# Altium footprint library smd_fp_lib.PcbLib: 10 footprints
Each footprint in its own frame and in the unit in brackets; x right, y up, seen from the top. Pads: shape width x height; smd on the part's side, far side on the other; paste and mask are expansions set on the pad; w line width, h text height; cw(c..) or ccw(c..) is an arc to the next point about the centre after c.
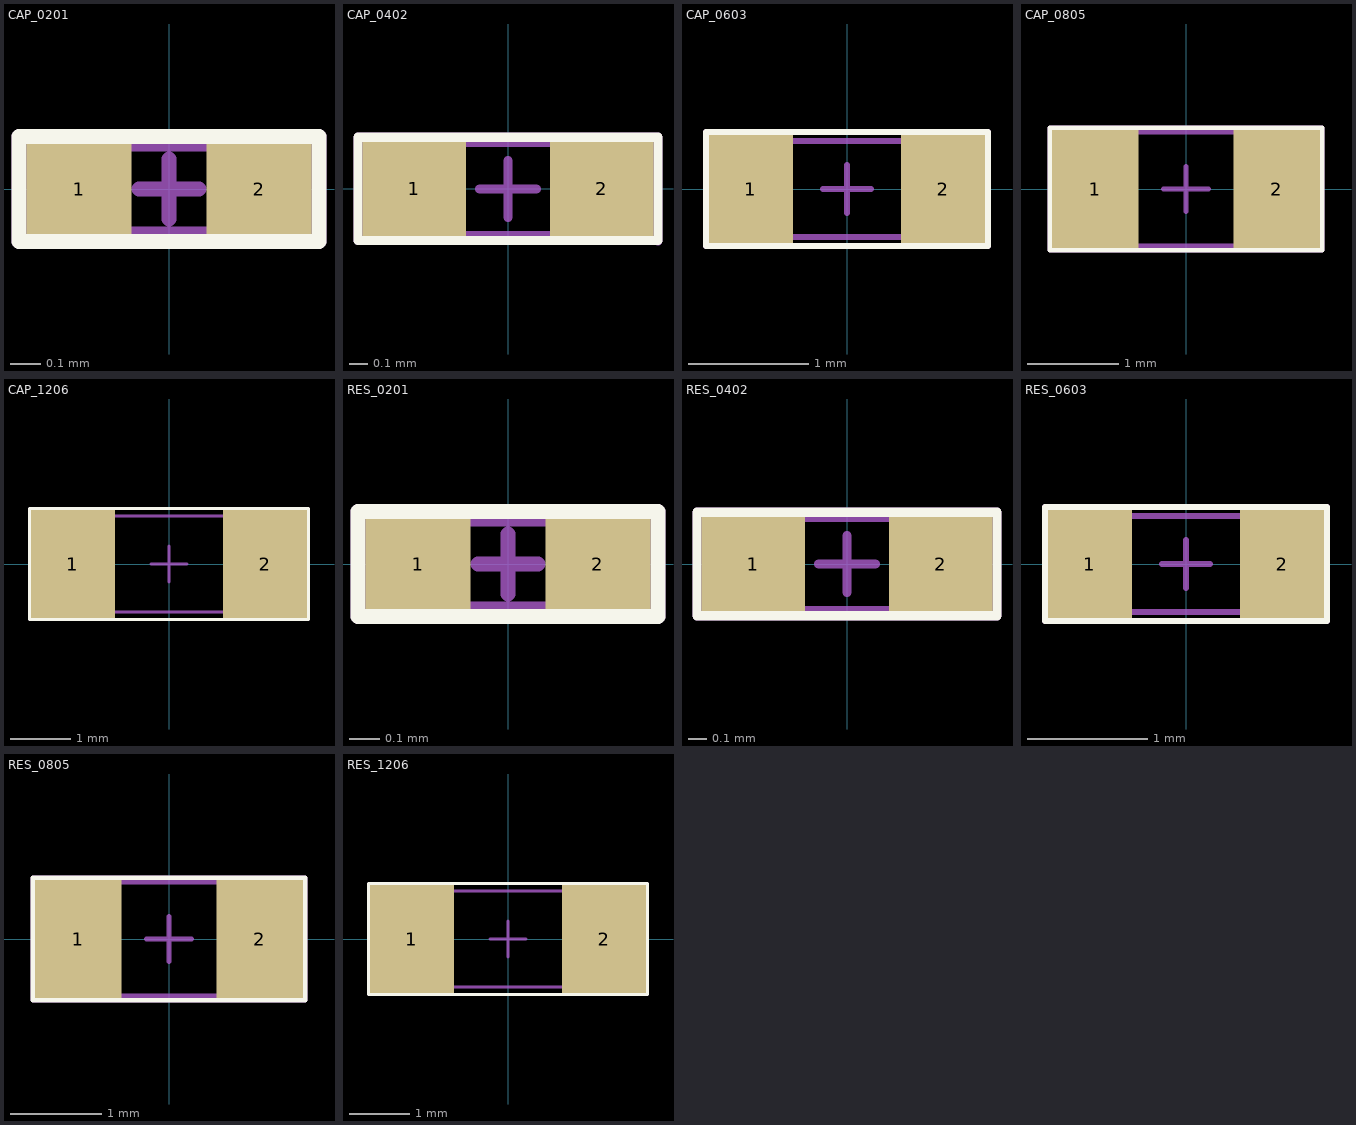
[diagram p0: the footprints below, top view; thin cyan lines are the x and y axes]

## CAP_0201 [mm]
height 0.33
pads (2):
  rect 0.35x0.3 smd mask+0.05: 1(-0.3,0) 2(0.3,0)
Top Overlay:
  lines w0.05: -0.5,-0.175 0.5,-0.175 0.5,0.175 -0.5,0.175 -0.5,-0.175
Mechanical 13:
  lines w0.05: -0.3,-0.15 0.3,-0.15 0.3,0.15 -0.3,0.15 -0.3,-0.15
Mechanical 15:
  lines w0.05: -0.1,0 0.1,0 ; 0,-0.1 0,0.1 ; -0.5,-0.175 -0.5,0.175 0.5,0.175 0.5,-0.175 -0.5,-0.175
3D body "C0201.STEP": height 0.33, standoff 0, extent -0.3,-0.15 0.3,0.15

## CAP_0402 [mm]
height 0.55
pads (2):
  rect 0.55x0.5 smd mask+0.05: 1(-0.5,0) 2(0.5,0)
Top Overlay:
  lines w0.05: -0.8,-0.275 0.8,-0.275 0.8,0.275 -0.8,0.275 -0.8,-0.275
Mechanical 13:
  lines w0.05: -0.5,-0.25 -0.5,0.25 0.5,0.25 0.5,-0.25 -0.5,-0.25
Mechanical 15:
  lines w0.05: -0.15,0 0.15,0 ; 0,-0.15 0,0.15 ; -0.8,-0.275 -0.8,0.275 0.8,0.275 0.8,-0.275 -0.8,-0.275
3D body "C0402.STEP": height 0.55, standoff 0, extent -0.5,-0.25 0.5,0.25

## CAP_0603 [mm]
height 0.9
pads (2):
  rect 0.7x0.9 smd mask+0.05: 1(-0.8,0) 2(0.8,0)
Top Overlay:
  lines w0.05: -1.175,-0.475 1.175,-0.475 1.175,0.475 -1.175,0.475 -1.175,-0.475
Mechanical 13:
  lines w0.05: -0.8,-0.4 -0.8,0.4 0.8,0.4 0.8,-0.4 -0.8,-0.4
Mechanical 15:
  lines w0.05: -0.2,0 0.2,0 ; 0,-0.2 0,0.2 ; -1.175,-0.475 -1.175,0.475 1.175,0.475 1.175,-0.475 -1.175,-0.475
3D body "C0603.STEP": height 0.9, standoff 0, extent -0.8,-0.4 0.8,0.4

## CAP_0805 [mm]
height 1.35
pads (2):
  rect 0.95x1.3 smd mask+0.05: 1(-1,0) 2(1,0)
Top Overlay:
  lines w0.05: -1.5,-0.675 -1.5,0.675 1.5,0.675 1.5,-0.675 -1.5,-0.675
Mechanical 13:
  lines w0.05: -1,-0.625 1,-0.625 1,0.625 -1,0.625 -1,-0.625
Mechanical 15:
  lines w0.05: -0.25,0 0.25,0 ; 0,-0.25 0,0.25 ; -1.5,-0.675 1.5,-0.675 1.5,0.675 -1.5,0.675 -1.5,-0.675
3D body "C0805.STEP": height 1.35, standoff 0, extent -1,-0.625 1,0.625

## CAP_1206 [mm]
height 1.4
pads (2):
  rect 1.4x1.8 smd mask+0.05: 1(-1.6,0) 2(1.6,0)
Top Overlay:
  lines w0.05: -2.325,-0.925 2.325,-0.925 2.325,0.925 -2.325,0.925 -2.325,-0.925
Mechanical 13:
  lines w0.05: -1.6,-0.8 1.6,-0.8 1.6,0.8 -1.6,0.8 -1.6,-0.8
Mechanical 15:
  lines w0.05: -0.3,0 0.3,0 ; 0,-0.3 0,0.3 ; -2.325,-0.925 2.325,-0.925 2.325,0.925 -2.325,0.925 -2.325,-0.925
3D body "C1206.STEP": height 1.4, standoff 0, extent -1.6,-0.8 1.6,0.8

## RES_0201 [mm]
height 0.25
pads (2):
  rect 0.35x0.3 smd mask+0.05: 1(-0.3,0) 2(0.3,0)
Top Overlay:
  lines w0.05: -0.5,-0.175 -0.5,0.175 0.5,0.175 0.5,-0.175 -0.5,-0.175
Mechanical 13:
  lines w0.05: -0.3,-0.15 0.3,-0.15 0.3,0.15 -0.3,0.15 -0.3,-0.15
Mechanical 15:
  lines w0.05: -0.1,0 0.1,0 ; 0,-0.1 0,0.1 ; -0.5,-0.175 0.5,-0.175 0.5,0.175 -0.5,0.175 -0.5,-0.175
3D body "R0201.STEP": height 0.23, standoff 0, extent -0.3,-0.15 0.3,0.15

## RES_0402 [mm]
height 0.35
pads (2):
  rect 0.55x0.5 smd mask+0.05: 1(-0.5,0) 2(0.5,0)
Top Overlay:
  lines w0.05: -0.8,-0.275 0.8,-0.275 0.8,0.275 -0.8,0.275 -0.8,-0.275
Mechanical 13:
  lines w0.05: -0.5,-0.25 0.5,-0.25 0.5,0.25 -0.5,0.25 -0.5,-0.25
Mechanical 15:
  lines w0.05: -0.15,0 0.15,0 ; 0,-0.15 0,0.15 ; 0.8,0.263 0.8,-0.275 -0.8,-0.275 -0.8,0.275 0.8,0.275
3D body "R0402.STEP": height 0.35, standoff 0, extent -0.5,-0.25 0.5,0.25

## RES_0603 [mm]
height 0.45
pads (2):
  rect 0.7x0.9 smd mask+0.05: 1(-0.8,0) 2(0.8,0)
Top Overlay:
  lines w0.05: -1.175,-0.475 -1.175,0.475 1.175,0.475 1.175,-0.475 -1.175,-0.475
Mechanical 13:
  lines w0.05: -0.8,-0.4 -0.8,0.4 0.8,0.4 0.8,-0.4 -0.8,-0.4
Mechanical 15:
  lines w0.05: -0.2,0 0.2,0 ; 0,-0.2 0,0.2 ; -1.175,-0.475 -1.175,0.475 1.175,0.475 1.175,-0.475 -1.175,-0.475
3D body "R0603.STEP": height 0.45, standoff 0, extent -0.8,-0.4 0.8,0.4

## RES_0805 [mm]
height 0.55
pads (2):
  rect 0.95x1.3 smd mask+0.05: 1(-1,0) 2(1,0)
Top Overlay:
  lines w0.05: -1.5,-0.675 -1.5,0.675 1.5,0.675 1.5,-0.675 -1.5,-0.675
Mechanical 13:
  lines w0.05: -1,-0.625 -1,0.625 1,0.625 1,-0.625 -1,-0.625
Mechanical 15:
  lines w0.05: -0.25,0 0.25,0 ; 0,-0.25 0,0.25 ; -1.5,-0.675 -1.5,0.675 1.5,0.675 1.5,-0.675 -1.5,-0.675
3D body "R0805.STEP": height 0.5, standoff 0, extent -1,-0.625 1,0.625

## RES_1206 [mm]
height 0.6
pads (2):
  rect 1.4x1.8 smd mask+0.05: 1(-1.6,0) 2(1.6,0)
Top Overlay:
  lines w0.05: -2.325,-0.925 2.325,-0.925 2.325,0.925 -2.325,0.925 -2.325,-0.925
Mechanical 13:
  lines w0.05: -1.6,-0.8 -1.6,0.8 1.6,0.8 1.6,-0.8 -1.6,-0.8
Mechanical 15:
  lines w0.05: -0.3,0 0.3,0 ; 0,-0.3 0,0.3 ; -2.325,-0.925 -2.325,0.925 2.325,0.925 2.325,-0.925 -2.325,-0.925
3D body "R1206.STEP": height 0.55, standoff 0, extent -1.5,-0.8 1.6,0.8